# Altium footprint library Capacitors_rus.PCBLIB: 349 footprints (part 21 of 22)
Each footprint in its own frame and in the unit in brackets; x right, y up, seen from the top. Pads: shape width x height; smd on the part's side, far side on the other; paste and mask are expansions set on the pad; w line width, h text height; cw(c..) or ccw(c..) is an arc to the next point about the centre after c.
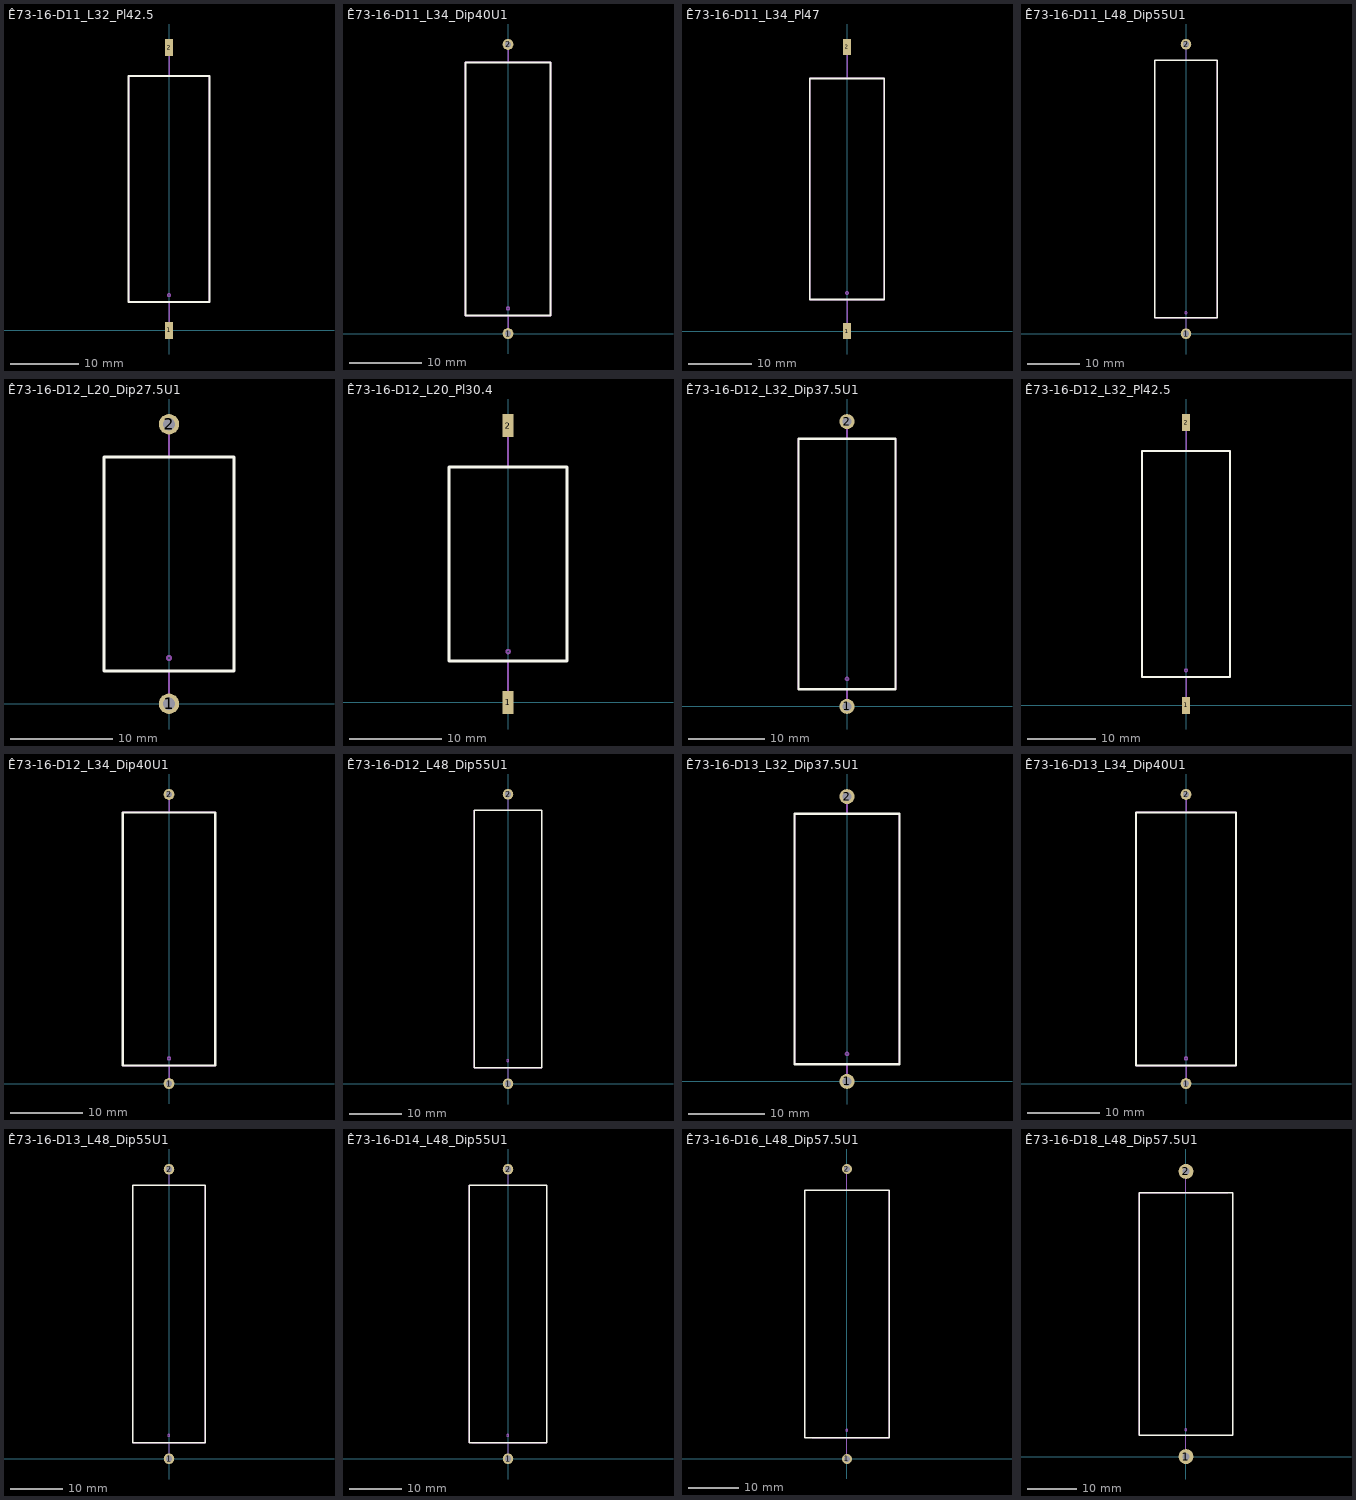
[diagram p20: the footprints below, top view; thin cyan lines are the x and y axes]

## Ê73-16-D11_L32_Pl42.5 [mm]
height 11.8
pads (2):
  rect 1.2x2.5 smd: 1(0,0) 2(0,41.25)
Top Overlay:
  lines w0.3: -5.9,4.125 -5.9,37.125 5.9,37.125 5.9,4.125 -5.9,4.125
Mechanical 1:
  circle w0.2: c0,5.155 r0.2
  lines w0.2: 0,-0.625 0,4.145 ; 0,37.105 0,41.875 ; -5.9,4.125 -5.9,37.125 5.9,37.125 5.9,4.125 -5.9,4.125
  text ".Designator" at 0.2,19.85 h1.5
3D body: height 11, standoff 0, extent -5.5,-1 5.478,42.5

## Ê73-16-D11_L34_Dip40U1 [mm]
height 11.8
pads (2):
  round 1.5 hole 0.8 unplated: 1(0,0) 2(0,40)
Top Overlay:
  lines w0.3: -5.9,2.5 5.9,2.5 5.9,37.5 -5.9,37.5 -5.9,2.5
Mechanical 1:
  circle w0.2: c0,3.48 r0.2
  lines w0.2: 0,0 0,2.5 ; 0,37.5 0,40 ; -5.9,2.5 5.9,2.5 5.9,37.5 -5.9,37.5 -5.9,2.5
  text ".Designator" at 0.3,18.4 h1.5
3D body: height 11, standoff -3, extent -5.5,-0.4 5.478,40.398

## Ê73-16-D11_L34_Pl47 [mm]
height 11.8
pads (2):
  rect 1.2x2.5 smd: 1(0,0) 2(0,45)
Top Overlay:
  lines w0.3: -5.9,5 -5.9,40 5.9,40 5.9,5 -5.9,5
Mechanical 1:
  circle w0.2: c0,6.03 r0.2
  lines w0.2: 0,-1 0,5 ; 0,40 0,46 ; -5.9,5 -5.9,40 5.9,40 5.9,5 -5.9,5
  text ".Designator" at 0.3,20.4 h1.5
3D body: height 11, standoff 0, extent -5.5,-1 5.478,46

## Ê73-16-D11_L48_Dip55U1 [mm]
height 11.8
pads (2):
  round 2 hole 1.2: 1(0,0) 2(0,55)
Top Overlay:
  lines w0.3: -5.9,3 -5.9,52 5.9,52 5.9,3 -5.9,3
Mechanical 1:
  circle w0.2: c0,3.99 r0.2
  lines w0.2: 0,0 0,3.02 ; 0,51.98 0,55 ; -5.9,3 -5.9,52 5.9,52 5.9,3 -5.9,3
  text ".Designator" at 0.25,26.55 h1.5
3D body: height 11, standoff -3, extent -5.5,-0.4 5.478,55.398

## Ê73-16-D12_L20_Dip27.5U1 [mm]
height 12.8
pads (2):
  round 2 hole 1.2: 1(0,0) 2(0,27.5)
Top Overlay:
  lines w0.3: -6.4,3.25 6.4,3.25 6.4,24.25 -6.4,24.25 -6.4,3.25
Mechanical 1:
  circle w0.2: c0.01,4.51 r0.2
  lines w0.2: 0,0 0,3.29 ; 0,24.23 0,27.5 ; -6.4,3.25 6.4,3.25 6.4,24.25 -6.4,24.25 -6.4,3.25
  text ".Designator" at 0.35,12.6 h1.5
3D body: height 12, standoff -3, extent -6,-0.4 5.976,27.898

## Ê73-16-D12_L20_Pl30.4 [mm]
height 12.8
pads (2):
  rect 1.2x2.5 smd: 1(0,0) 2(0,30)
Top Overlay:
  lines w0.3: -6.4,4.5 6.4,4.5 6.4,25.5 -6.4,25.5 -6.4,4.5
Mechanical 1:
  circle w0.2: c0.01,5.51 r0.2
  lines w0.2: 0,-0.2 0,4.53 ; 0,25.48 0,30.2 ; -6.4,4.5 6.4,4.5 6.4,25.5 -6.4,25.5 -6.4,4.5
  text ".Designator" at 0.25,14 h1.5
3D body: height 12, standoff 0, extent -6,-1 5.976,31

## Ê73-16-D12_L32_Dip37.5U1 [mm]
height 12.8
pads (2):
  round 2 hole 1.2: 1(0,0) 2(0,37.5)
Top Overlay:
  lines w0.3: -6.4,2.25 6.4,2.25 6.4,35.25 -6.4,35.25 -6.4,2.25
Mechanical 1:
  circle w0.2: c0,3.63 r0.2
  lines w0.2: 0,0 0,2.27 ; 0,35.23 0,37.5 ; -6.4,2.25 6.4,2.25 6.4,35.25 -6.4,35.25 -6.4,2.25
  text ".Designator" at 0.4,17.25 h1.5
3D body: height 12, standoff -3, extent -6,-0.4 5.976,37.898

## Ê73-16-D12_L32_Pl42.5 [mm]
height 12.8
pads (2):
  rect 1.2x2.5 smd: 1(0,0) 2(0,41.25)
Top Overlay:
  lines w0.3: -6.4,4.125 6.4,4.125 6.4,37.125 -6.4,37.125 -6.4,4.125
Mechanical 1:
  circle w0.2: c0,5.105 r0.2
  lines w0.2: 0,-0.625 0,4.145 ; 0,37.105 0,41.875 ; -6.4,4.125 6.4,4.125 6.4,37.125 -6.4,37.125 -6.4,4.125
  text ".Designator" at 0.2,17.1 h1.5
3D body: height 12, standoff 0, extent -6,-1 5.976,42.5

## Ê73-16-D12_L34_Dip40U1 [mm]
height 12.8
pads (2):
  round 1.5 hole 0.8 unplated: 1(0,0) 2(0,40)
Top Overlay:
  lines w0.3: -6.4,2.5 -6.4,37.5 6.4,37.5 6.4,2.5 -6.4,2.5
Mechanical 1:
  circle w0.2: c0,3.48 r0.2
  lines w0.2: 0,0 0,2.5 ; 0,37.5 0,40 ; -6.4,2.5 -6.4,37.5 6.4,37.5 6.4,2.5 -6.4,2.5
  text ".Designator" at 0.3,17.4 h1.5
3D body: height 12, standoff -3, extent -6,-0.4 5.976,40.398

## Ê73-16-D12_L48_Dip55U1 [mm]
height 12.8
pads (2):
  round 2 hole 1.2: 1(0,0) 2(0,55)
Top Overlay:
  lines w0.3: -6.4,3 6.4,3 6.4,52 -6.4,52 -6.4,3
Mechanical 1:
  circle w0.2: c-0.05,4.39 r0.2
  lines w0.2: 0,0 0,3.02 ; 0,51.98 0,55 ; -6.4,3 6.4,3 6.4,52 -6.4,52 -6.4,3
  text ".Designator" at 0.25,26.05 h1.5
3D body: height 12, standoff -3, extent -6,-0.4 5.976,55.398

## Ê73-16-D13_L32_Dip37.5U1 [mm]
height 13.8
pads (2):
  round 2 hole 1.2: 1(0,0) 2(0,37.5)
Top Overlay:
  lines w0.3: -6.9,2.25 -6.9,35.25 6.9,35.25 6.9,2.25 -6.9,2.25
Mechanical 1:
  circle w0.2: c0,3.63 r0.2
  lines w0.2: 0,0 0,2.27 ; 0,35.23 0,37.5 ; -6.9,2.25 -6.9,35.25 6.9,35.25 6.9,2.25 -6.9,2.25
  text ".Designator" at 0.15,17.95 h1.5
3D body: height 13, standoff -3, extent -6.5,-0.4 6.474,37.898

## Ê73-16-D13_L34_Dip40U1 [mm]
height 13.8
pads (2):
  round 1.5 hole 0.8 unplated: 1(0,0) 2(0,40)
Top Overlay:
  lines w0.3: -6.9,2.5 6.9,2.5 6.9,37.5 -6.9,37.5 -6.9,2.5
Mechanical 1:
  circle w0.2: c0,3.48 r0.2
  lines w0.2: 0,0 0,2.5 ; 0,37.5 0,40 ; -6.9,2.5 6.9,2.5 6.9,37.5 -6.9,37.5 -6.9,2.5
  text ".Designator" at 0.3,17.4 h1.5
3D body: height 13, standoff -3, extent -6.5,-0.4 6.474,40.398

## Ê73-16-D13_L48_Dip55U1 [mm]
height 13.8
pads (2):
  round 2 hole 1.2: 1(0,0) 2(0,55)
Top Overlay:
  lines w0.3: -6.9,3 6.9,3 6.9,52 -6.9,52 -6.9,3
Mechanical 1:
  circle w0.2: c-0.05,4.44 r0.2
  lines w0.2: 0,0 0,3.02 ; 0,51.98 0,55 ; -6.9,3 6.9,3 6.9,52 -6.9,52 -6.9,3
  text ".Designator" at 0.05,26.65 h1.5
3D body: height 13, standoff -3, extent -6.5,-0.4 6.474,55.398

## Ê73-16-D14_L48_Dip55U1 [mm]
height 14.8
pads (2):
  round 2 hole 1.2: 1(0,0) 2(0,55)
Top Overlay:
  lines w0.3: -7.4,3 -7.4,52 7.4,52 7.4,3 -7.4,3
Mechanical 1:
  circle w0.2: c-0.05,4.44 r0.2
  lines w0.2: -7.4,3 -7.4,52 7.4,52 7.4,3 -6.9,3 ; 0,0 0,3.02 ; 0,51.98 0,55
  text ".Designator" at 0.3,26.5 h1.5
3D body: height 14, standoff -3, extent -7,-0.4 6.972,55.398

## Ê73-16-D16_L48_Dip57.5U1 [mm]
height 16.8
pads (2):
  round 2 hole 1.2: 1(0,0) 2(0,57.5)
Top Overlay:
  lines w0.3: -8.4,4.25 8.4,4.25 8.4,53.25 -8.4,53.25 -8.4,4.25
Mechanical 1:
  circle w0.2: c-0.05,5.69 r0.2
  lines w0.2: -8.4,4.25 -8.4,53.25 8.4,53.25 8.4,4.25 -6.9,4.25 ; 0,0 0,4.27 ; 0,53.23 0,57.5
  text ".Designator" at 0.05,27.3 h1.5
3D body: height 16, standoff -3, extent -8,-0.5 7.968,57.998

## Ê73-16-D18_L48_Dip57.5U1 [mm]
height 18.8
pads (2):
  round 3 hole 1.5: 1(0,0) 2(0,57.5)
Top Overlay:
  lines w0.3: -9.4,4.25 9.4,4.25 9.4,53.25 -9.4,53.25 -9.4,4.25
Mechanical 1:
  circle w0.2: c-0.05,5.44 r0.2
  lines w0.2: -9.4,4.25 -9.4,53.25 8.4,53.25 ; -6.9,4.25 9.41,4.26 ; 0,0 0,4.27 ; 0,53.23 0,57.5 ; 9.4,4.25 9.4,53.25
  text ".Designator" at 0.5,27.45 h1.5
3D body: height 18, standoff -3, extent -9,-0.5 8.964,57.998